# Altium schematic symbol library Hall Effect Header.Schlib: 1 symbol
Pins are listed as number, name and electrical type; pins without a type are passive.

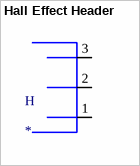
[diagram p0: symbol Hall Effect Header]

## Hall Effect Header
designator H
pins: 1, 2, 3